# Altium integrated library LM2931MX-5P0NOPB.IntLib: 2 symbols
Pins are listed as number, name and electrical type; pins without a type are passive.

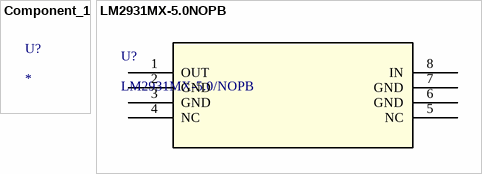
[diagram p0: symbols Component_1 to LM2931MX-5.0NOPB]

## Component_1
designator U?
Value: *; HelpURL: *; MPN: *; Supplier: *; SupplierPartNumber: *

## LM2931MX-5.0NOPB
designator U?, comment LM2931MX-5.0/NOPB
No Description Available; Mfr_Name: Texas Instruments; Copyright: Copyright (C) 2023 Ultra Librarian. All rights reserved.; Manufacturer_Part_Number: LM2931MX-5.0/NOPB; RefDes: RefDes; Type: DEV
footprint M08A_TEX
pins: 1 OUT (power), 2 GND (power), 3 GND (power), 4 NC, 5 NC, 6 GND (power), 7 GND (power), 8 IN (power)